# Altium footprint library SE_13.PcbLib: 25 footprints (part 2 of 2)
Each footprint in its own frame and in the unit in brackets; x right, y up, seen from the top. Pads: shape width x height; smd on the part's side, far side on the other; paste and mask are expansions set on the pad; w line width, h text height; cw(c..) or ccw(c..) is an arc to the next point about the centre after c.
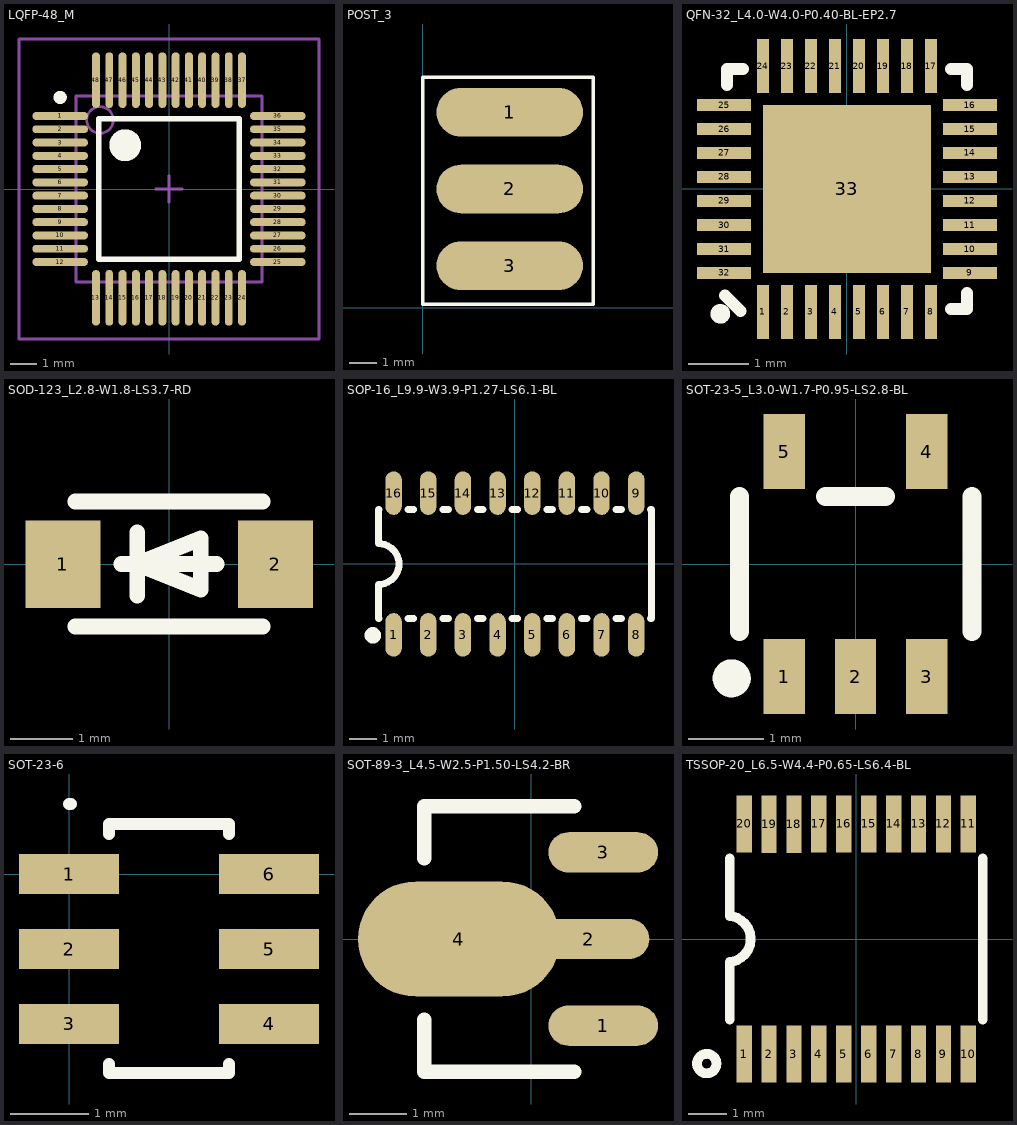
[diagram p1: the footprints below, top view; thin cyan lines are the x and y axes]

## LQFP-48_M [mm]
height 1.6
pads (48):
  oval 2.1x0.3 smd: 1(-4.1,2.75) 2(-4.1,2.25) 3(-4.1,1.75) 4(-4.1,1.25) 5(-4.1,0.75) 6(-4.1,0.25) 7(-4.1,-0.25) 8(-4.1,-0.75) 9(-4.1,-1.25) 10(-4.1,-1.75) 11(-4.1,-2.25) 12(-4.1,-2.75) 25(4.1,-2.75) 26(4.1,-2.25) 27(4.1,-1.75) 28(4.1,-1.25) 29(4.1,-0.75) 30(4.1,-0.25) 31(4.1,0.25) 32(4.1,0.75) 33(4.1,1.25) 34(4.1,1.75) 35(4.1,2.25) 36(4.1,2.75)
  oval 0.3x2.1 smd: 13(-2.75,-4.1) 14(-2.25,-4.1) 15(-1.75,-4.1) 16(-1.25,-4.1) 17(-0.75,-4.1) 18(-0.25,-4.1) 19(0.25,-4.1) 20(0.75,-4.1) 21(1.25,-4.1) 22(1.75,-4.1) 23(2.25,-4.1) 24(2.75,-4.1) 37(2.75,4.1) 38(2.25,4.1) 39(1.75,4.1) 40(1.25,4.1) 41(0.75,4.1) 42(0.25,4.1) 43(-0.25,4.1) 44(-0.75,4.1) 45(-1.25,4.1) 46(-1.75,4.1) 47(-2.25,4.1) 48(-2.75,4.1)
Top Overlay:
  circle w0.6: c-1.65,1.65 r0.3
  circle w0.25: c-4.1,3.45 r0.125
  lines w0.2: -2.65,-2.65 2.65,-2.65 2.65,2.65 -2.65,2.65 -2.65,-2.65
Mechanical 16:
  circle w0.1: c-2.6,2.6 r0.5
  lines w0.1: -0.5,0 0.5,0 ; 0,-0.5 0,0.5 ; -5.65,-5.65 5.65,-5.65 5.65,5.65 -5.65,5.65 -5.65,-5.65 ; -3.5,-3.5 3.5,-3.5 3.5,3.5 -3.5,3.5 -3.5,-3.5

## POST_3 [mil]
pads (3):
  oval 210x70 smd: 1(125,280) 2(125,170) 3(125,60)
Top Overlay:
  lines w5: 0,5 0,330 245,330 245,5 0,5

## QFN-32_L4.0-W4.0-P0.40-BL-EP2.7 [mm]
pads (33):
  rect 0.2x0.9 smd: 1(-1.4,-2.05) 2(-1,-2.05) 3(-0.6,-2.05) 4(-0.2,-2.05) 5(0.2,-2.05) 6(0.6,-2.05) 7(1,-2.05) 8(1.4,-2.05) 17(1.4,2.05) 18(1,2.05) 19(0.6,2.05) 20(0.2,2.05) 21(-0.2,2.05) 22(-0.6,2.05) 23(-1,2.05) 24(-1.4,2.05)
  rect 0.9x0.2 smd: 9(2.05,-1.4) 10(2.05,-1) 11(2.05,-0.6) 12(2.05,-0.2) 13(2.05,0.2) 14(2.05,0.6) 15(2.05,1) 16(2.05,1.4) 25(-2.05,1.4) 26(-2.05,1) 27(-2.05,0.6) 28(-2.05,0.2) 29(-2.05,-0.2) 30(-2.05,-0.6) 31(-2.05,-1) 32(-2.05,-1.4)
  rect 2.8x2.8 smd: 33(0,0)
Top Overlay:
  circle w0.2: c-2.11,-2.08 r0.063
  lines w0.2: -2.032,-1.778 -1.778,-2.032 ; -2,1.731 -2,2 -1.731,2 ; 1.731,-2 2,-2 2,-1.731 ; 1.731,2 2,2 2,1.731

## SOD-123_L2.8-W1.8-LS3.7-RD [mm]
pads (2):
  rect 1.2x1.4 smd: 1(-1.7,0) 2(1.7,0)
Top Overlay:
  lines w0.254: -1.5,-1 1.5,-1 ; -1.5,1 1.5,1 ; -0.762,0 0.762,0 ; -0.508,-0.508 -0.508,0.508 ; -0.508,0 0.508,0.406 0.508,-0.406 -0.508,0

## SOP-16_L9.9-W3.9-P1.27-LS6.1-BL [mm]
pads (16):
  oval 0.6x1.598 smd: 1(-4.445,-2.6) 2(-3.175,-2.6) 3(-1.905,-2.6) 4(-0.635,-2.6) 5(0.635,-2.6) 6(1.905,-2.6) 7(3.175,-2.6) 8(4.445,-2.6) 9(4.445,2.6) 10(3.175,2.6) 11(1.905,2.6) 12(0.635,2.6) 13(-0.635,2.6) 14(-1.905,2.6) 15(-3.175,2.6) 16(-4.445,2.6)
Top Overlay:
  lines w0.254: -4.976,-2 -5,-2 -5,-0.751 ccw(c-5,-0.001) -5,0.75 -5,2 -4.976,2 ; -3.914,-2 -3.706,-2 ; -3.914,2 -3.706,2 ; -2.644,-2 -2.436,-2 ; -2.644,2 -2.436,2 ; -1.374,-2 -1.166,-2 ; -1.374,2 -1.166,2 ; -0.104,-2 0.104,-2 ; -0.104,2 0.104,2 ; 1.166,-2 1.374,-2 ; 1.166,2 1.374,2 ; 2.436,-2 2.644,-2 ; 2.436,2 2.644,2 ; 3.706,-2 3.914,-2 ; 3.706,2 3.914,2 ; 4.976,-2 5,-2 5,2 4.976,2
  lines w0.3: -5.207,-2.464 ccw(c-5.206,-2.614) -5.204,-2.464

## SOT-23-5_L3.0-W1.7-P0.95-LS2.8-BL [mm]
pads (5):
  rect 0.55x1 smd: 1(-0.95,-1.5) 2(0,-1.5) 3(0.95,-1.5) 4(0.95,1.5) 5(-0.95,1.5)
Top Overlay:
  circle w0.254: c-1.651,-1.524 r0.127
  lines w0.254: -1.55,-0.9 -1.55,0.9 ; -0.4,0.9 0.4,0.9 ; 1.55,-0.9 1.55,0.9

## SOT-23-6 [mil]
pads (6):
  rect 50x20 smd: 1(0,0) 2(0,-37.4) 3(0,-74.8) 4(100,-74.8) 5(100,-37.4) 6(100,0)
Top Overlay:
  lines w6: 0,35 1,35 ; 20,-95 20,-99.32 80,-99.32 80,-95 ; 20,20 20,25 80,25 80,20

## SOT-89-3_L4.5-W2.5-P1.50-LS4.2-BR [mm]
pads (4):
  oval 1.9x0.7 smd: 1(1.25,-1.501) 3(1.25,1.501)
  oval 2.1x0.7 smd: 2(1,0)
  oval 3.5x2 smd: 4(-1.25,0)
Top Overlay:
  lines w0.254: -1.85,-1.4 -1.85,-2.3 0.75,-2.3 ; -1.85,1.4 -1.85,2.3 0.75,2.3

## TSSOP-20_L6.5-W4.4-P0.65-LS6.4-BL [mm]
pads (20):
  rect 0.4x1.494 smd: 1(-2.925,-3.001) 2(-2.275,-3.001) 3(-1.625,-3.001) 4(-0.975,-3.001) 5(-0.325,-3.001) 6(0.324,-3.001) 7(0.975,-3.001) 8(1.625,-3.001) 9(2.275,-3.001) 10(2.925,-3.001) 11(2.925,3.001) 12(2.275,3.001) 13(1.625,3.001) 14(0.975,3.001) 15(0.325,3.001) 16(-0.325,3.001) 17(-0.975,3.001) 18(-1.625,2.996) 19(-2.275,2.996) 20(-2.925,3.001)
Top Overlay:
  circle w0.254: c-3.9,-3.25 r0.254
  lines w0.254: -3.3,-2.105 -3.3,-2.105 -3.3,-0.6 ccw(c-3.357,0) -3.3,0.6 -3.3,2.105 ; 3.3,2.105 3.3,-2.105 3.3,-2.105